# Altium footprint library PcbLib1.PcbLib: 25 footprints (part 1 of 2)
Each footprint in its own frame and in the unit in brackets; x right, y up, seen from the top. Pads: shape width x height; smd on the part's side, far side on the other; paste and mask are expansions set on the pad; w line width, h text height; cw(c..) or ccw(c..) is an arc to the next point about the centre after c.
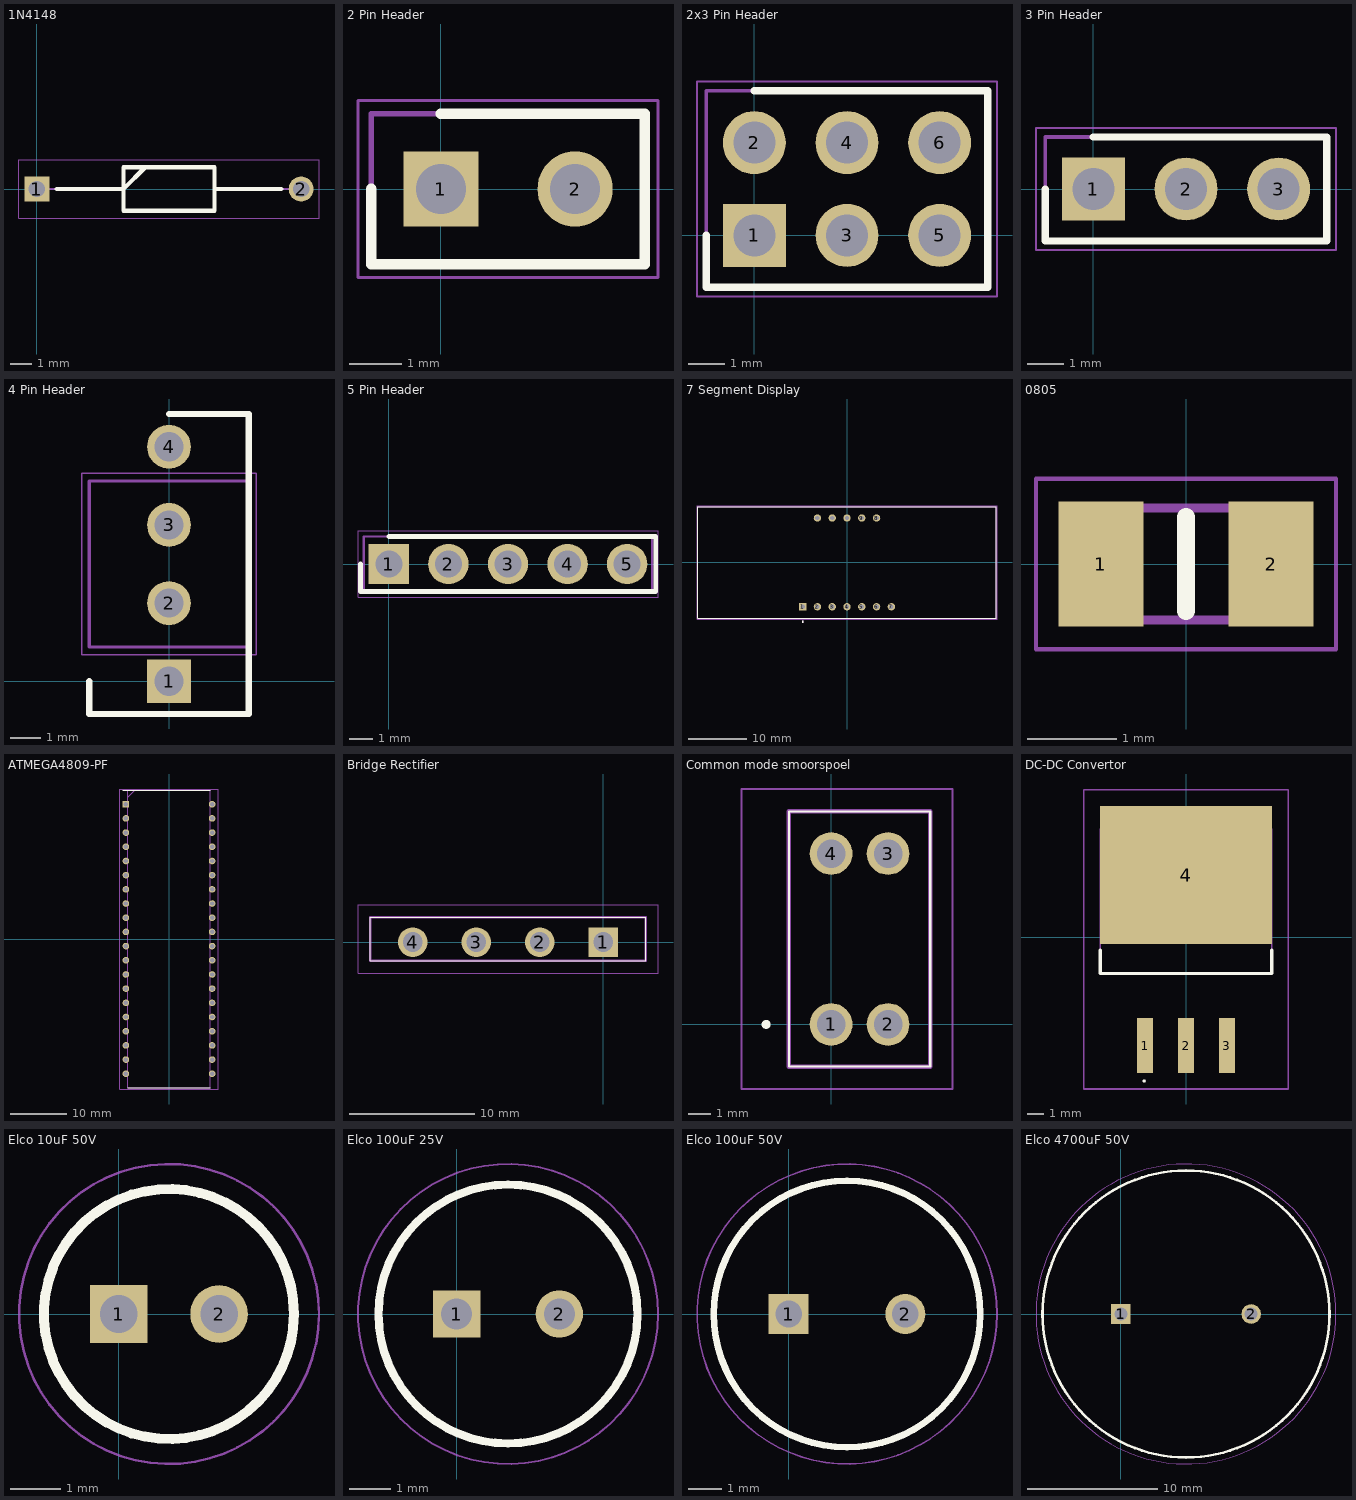
[diagram p0: the footprints below, top view; thin cyan lines are the x and y axes]

## 1N4148 [mm] "DIOAD1220W56L420D200"
pads (2):
  rect 1.15x1.15 hole 0.75: 1(0,0)
  round 1.15 hole 0.75: 2(12.2,0)
Top Overlay:
  lines w0.2: 0.925,0 4,0 5,1 ; 8.2,0 11.275,0 ; 4,-1 8.2,-1 8.2,1 4,1 4,-1
Mechanical 13:
  lines w0.1: 0,0 4,0 5,1 ; 8.2,0 12.2,0 ; 4,-1 8.2,-1 8.2,1 4,1 4,-1
Mechanical 15:
  lines w0.05: -0.825,-1.35 13.025,-1.35 13.025,1.35 -0.825,1.35 -0.825,-1.35
3D body "1N4148-B.stp": height 1.99, standoff -2, extent -0.277,-0.998 12.48,0.998

## 2 Pin Header [mm]
pads (2):
  rect 1.425x1.425 hole 0.95: 1(0,0)
  round 1.425 hole 0.95: 2(2.54,0)
Top Overlay:
  lines w0.2: -1.32,0 -1.32,-1.425 3.86,-1.425 3.86,1.425 0,1.425
Mechanical 13:
  lines w0.1: -1.32,-1.425 -1.32,1.425 3.86,1.425 3.86,-1.425 -1.32,-1.425
Mechanical 15:
  lines w0.05: -1.57,-1.675 -1.57,1.675 4.11,1.675 4.11,-1.675 -1.57,-1.675
3D body "5-146280-2.stp": height 8.12, standoff -3.05, extent -1.067,-1.168 3.607,1.168

## 2x3 Pin Header [mm] "HDRV6W67P254_2X3_721X488X872P"
pads (6):
  rect 1.725x1.725 hole 1.15: 1(0,0)
  round 1.725 hole 1.15: 2(0,2.54) 3(2.54,0) 4(2.54,2.54) 5(5.08,0) 6(5.08,2.54)
Top Overlay:
  lines w0.2: -1.32,0 -1.32,-1.425 6.4,-1.425 6.4,3.965 0,3.965
Mechanical 13:
  lines w0.1: -1.32,-1.425 6.4,-1.425 6.4,3.965 -1.32,3.965 -1.32,-1.425
Mechanical 15:
  lines w0.05: -1.57,-1.675 6.65,-1.675 6.65,4.215 -1.57,4.215 -1.57,-1.675
3D body "5-146256-3.stp": height 8.12, standoff -3.05, extent -1.067,-1.168 6.147,3.708

## 3 Pin Header [mm]
pads (3):
  rect 1.725x1.725 hole 1.15: 1(0,0)
  round 1.725 hole 1.15: 2(2.54,0) 3(5.08,0)
Top Overlay:
  lines w0.2: -1.32,0 -1.32,-1.425 6.4,-1.425 6.4,1.425 0,1.425
Mechanical 13:
  lines w0.1: -1.32,-1.425 6.4,-1.425 6.4,1.425 -1.32,1.425 -1.32,-1.425
Mechanical 15:
  lines w0.05: -1.57,-1.675 6.65,-1.675 6.65,1.675 -1.57,1.675 -1.57,-1.675
3D body "5-146280-3.stp": height 8.12, standoff -3.05, extent -1.067,-1.168 6.147,1.168

## 4 Pin Header [mm]
pads (4):
  rect 1.425x1.425 hole 0.95: 1(0,0)
  round 1.425 hole 0.95: 2(0,2.54) 3(0,5.08) 4(0,7.62)
Top Overlay:
  lines w0.2: -2.59,0 -2.59,-1.062 2.59,-1.062 2.59,8.683 0,8.683
Mechanical 13:
  lines w0.1: -2.59,1.115 -2.59,6.505 2.59,6.505 2.59,1.115 -2.59,1.115
Mechanical 15:
  lines w0.05: -2.84,0.865 -2.84,6.755 2.84,6.755 2.84,0.865 -2.84,0.865
3D body "5-146280-4.stp": height 8.21, standoff -3.43, extent -2.335,-0.384 2.335,8.004

## 5 Pin Header [mm]
pads (5):
  rect 1.725x1.725 hole 1.15: 1(0,0)
  round 1.725 hole 1.15: 2(2.54,0) 3(5.08,0) 4(7.62,0) 5(10.16,0)
Top Overlay:
  lines w0.2: -1.212,0 -1.212,-1.17 11.373,-1.17 11.373,1.17 0,1.17
Mechanical 13:
  lines w0.1: -1.065,-1.17 11.225,-1.17 11.225,1.17 -1.065,1.17 -1.065,-1.17
Mechanical 15:
  lines w0.05: -1.315,-1.42 11.475,-1.42 11.475,1.42 -1.315,1.42 -1.315,-1.42
3D body "5-146280-5.stp": height 8.12, standoff -3.05, extent -1.067,-1.168 11.227,1.168

## 7 Segment Display [mm]
pads (12):
  rect 1.262x1.262 hole 0.754: 1(-7.62,-7.62)
  round 1.262 hole 0.754: 2(-5.08,-7.62) 3(-2.54,-7.62) 4(0,-7.62) 5(2.54,-7.62) 6(5.08,-7.62) 7(7.62,-7.62) 8(5.08,7.62) 9(2.54,7.62) 10(0,7.62) 11(-2.54,7.62) 12(-5.08,7.62)
Top Overlay:
  circle w0.2: c-7.6,-10.2 r0.1
  lines w0.127: -25.6,-9.55 -25.6,9.55 25.6,9.55 25.6,-9.55 -25.6,-9.55
Mechanical 13:
  circle w0.2: c-7.6,-10.2 r0.1
  lines w0.127: -25.6,-9.55 25.6,-9.55 25.6,9.55 -25.6,9.55 -25.6,-9.55
Mechanical 15:
  lines w0.05: -25.75,-9.75 25.75,-9.75 25.75,9.75 -25.75,9.75 -25.75,-9.75

## 0805 [mm]
pads (2):
  rect 0.95x1.4 smd: 1(-0.95,0) 2(0.95,0)
Top Overlay:
  lines w0.2: 0,-0.525 0,0.525
Mechanical 13:
  lines w0.1: -1,-0.625 1,-0.625 1,0.625 -1,0.625 -1,-0.625
Mechanical 15:
  lines w0.05: -1.675,-0.95 1.675,-0.95 1.675,0.95 -1.675,0.95 -1.675,-0.95
3D body "AC0805FR-7W2KL.stp": height 0.6, standoff 0, extent -1,-0.625 1,0.625

## ATMEGA4809-PF [mm]
pads (40):
  rect 1.184x1.184 hole 0.784: 1(-7.715,24.13)
  round 1.184 hole 0.784: 2(-7.715,21.59) 3(-7.715,19.05) 4(-7.715,16.51) 5(-7.715,13.97) 6(-7.715,11.43) 7(-7.715,8.89) 8(-7.715,6.35) 9(-7.715,3.81) 10(-7.715,1.27) 11(-7.715,-1.27) 12(-7.715,-3.81) 13(-7.715,-6.35) 14(-7.715,-8.89) 15(-7.715,-11.43) 16(-7.715,-13.97) 17(-7.715,-16.51) 18(-7.715,-19.05) 19(-7.715,-21.59) 20(-7.715,-24.13) 21(7.715,-24.13) 22(7.715,-21.59) 23(7.715,-19.05) 24(7.715,-16.51) 25(7.715,-13.97) 26(7.715,-11.43) 27(7.715,-8.89) 28(7.715,-6.35) 29(7.715,-3.81) 30(7.715,-1.27) 31(7.715,1.27) 32(7.715,3.81) 33(7.715,6.35) 34(7.715,8.89) 35(7.715,11.43) 36(7.715,13.97) 37(7.715,16.51) 38(7.715,19.05) 39(7.715,21.59) 40(7.715,24.13)
Top Overlay:
  lines w0.2: -8.307,26.606 7.366,26.606 ; -7.366,-26.606 7.366,-26.606
Mechanical 13:
  lines w0.1: -7.366,25.336 -6.096,26.606 ; -7.366,-26.606 -7.366,26.606 7.366,26.606 7.366,-26.606 -7.366,-26.606
Mechanical 15:
  lines w0.05: -8.78,-26.856 -8.78,26.856 8.78,26.856 8.78,-26.856 -8.78,-26.856
3D body "ATMEGA4809-PF.stp": height 6.35, standoff -3.5, extent -7.861,-25.876 7.861,25.876

## Bridge Rectifier [mm]
pads (4):
  rect 2.37x2.37 hole 1.58: 1(0,0)
  round 2.37 hole 1.58: 2(-5.08,0) 3(-10.16,0) 4(-15.24,0)
Top Overlay:
  lines w0.1: -18.62,-1.5 3.38,-1.5 3.38,2 -18.62,2 -18.62,-1.5
Mechanical 13:
  lines w0.2: -18.62,-1.5 3.38,-1.5 3.38,2 -18.62,2 -18.62,-1.5
Mechanical 15:
  lines w0.1: -19.62,-2.5 4.38,-2.5 4.38,3 -19.62,3 -19.62,-2.5
3D body "GBU6J.stp": height 18.9, standoff -5, extent -18.62,-1.5 3.38,2

## Common mode smoorspoel [mm] "CM2545X171B10"
pads (4):
  round 1.905 hole 1.27: 1(0,0) 2(2.54,0) 3(2.54,7.62) 4(0,7.62)
Top Overlay:
  lines w0.1: -1.88,-1.88 -1.88,9.5 4.42,9.5 4.42,-1.88 -1.88,-1.88
  lines w0.2: -3,0 cw(c-2.9,0) -2.8,0 cw(c-2.9,0) -3,0
Mechanical 13:
  lines w0.2: -1.88,-1.88 -1.88,9.5 4.42,9.5 4.42,-1.88 -1.88,-1.88
Mechanical 15:
  lines w0.1: -4,-2.88 -4,10.5 5.42,10.5 5.42,-2.88 -4,-2.88
3D body "CM2545X171B-10.stp": height 9.6, standoff -5, extent -1.88,-1.88 4.42,9.5

## DC-DC Convertor [mm]
pads (4):
  rect 1x3.4 smd: 1(-2.54,-6.745) 2(0,-6.745) 3(2.54,-6.745)
  rect 10.7x8.6 smd: 4(0,3.855)
Top Overlay:
  lines w0.1: -2.6,-9 ccw(c-2.6,-8.95) -2.6,-8.9 ccw(c-2.6,-8.95) -2.6,-9
  lines w0.2: -5.33,-0.8 -5.33,-2.27 5.33,-2.27 5.33,-0.8
Mechanical 13:
  lines w0.1: -5.33,-2.27 5.33,-2.27 5.33,6.745 -5.33,6.745 -5.33,-2.27
Mechanical 15:
  lines w0.1: -6.35,-9.445 6.35,-9.445 6.35,9.155 -6.35,9.155 -6.35,-9.445

## Elco 10uF 50V [mm] "CAPPRD200W55D500H1250"
pads (2):
  rect 1.15x1.15 hole 0.75: 1(0,0)
  round 1.15 hole 0.75: 2(2,0)
Top Overlay:
  circle w0.2: c1,0 r2.5
Mechanical 13:
  circle w0.1: c1,0 r2.5
Mechanical 15:
  circle w0.05: c1,0 r3
3D body "EEU-FR1H100.stp": height 12.5, standoff -10, extent -1.75,-2.75 3.75,2.75

## Elco 100uF 25V [mm]
pads (2):
  rect 1.15x1.15 hole 0.75: 1(0,0)
  round 1.15 hole 0.75: 2(2.5,0)
Top Overlay:
  circle w0.2: c1.25,0 r3.15
Mechanical 13:
  circle w0.1: c1.25,0 r3.15
Mechanical 15:
  circle w0.05: c1.25,0 r3.65
3D body "EEU-HD1E101H.stp": height 12.7, standoff -10, extent -2.15,-3.4 4.65,3.4

## Elco 100uF 50V [mm]
pads (2):
  rect 1.2x1.2 hole 0.8: 1(0,0)
  round 1.2 hole 0.8: 2(3.5,0)
Top Overlay:
  circle w0.2: c1.75,0 r4
Mechanical 13:
  circle w0.1: c1.75,0 r4
Mechanical 15:
  circle w0.05: c1.75,0 r4.5
3D body "ESH107M050AG3KA.stp": height 12.5, standoff -10, extent -2.5,-4.25 6,4.25

## Elco 4700uF 50V [mm]
pads (2):
  rect 1.5x1.5 hole 1: 1(0,0)
  round 1.5 hole 1: 2(10,0)
Top Overlay:
  circle w0.2: c5,0 r11
Mechanical 13:
  circle w0.1: c5,0 r11
Mechanical 15:
  circle w0.05: c5,0 r11.5
3D body "ESK478M050AQ3AA.stp": height 37, standoff -10, extent -6.25,-11.25 16.25,11.25